# EAGLE library part SCT2024 (library ds_ic_peripherals)
16-bit Serial bit Serial bit Serial-In/Parallel In/Parallel In/Parallel-Out Constant Out Constant Out Constant-Current LED Driver Current LED Driver
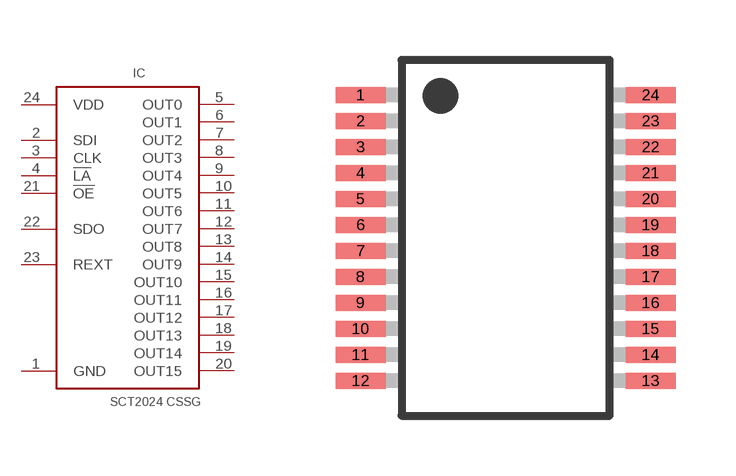
[diagram p35: symbol with the pads of SSOP24; footprint SSOP24]

Designator prefix IC

## SCT2024CSSG  [SSOP24]
1  GND
2  SDI
3  CLK
4  !LA
5  OUT0
6  OUT1
7  OUT2
8  OUT3
9  OUT4
10  OUT5
11  OUT6
12  OUT7
13  OUT8
14  OUT9
15  OUT10
16  OUT11
17  OUT12
18  OUT13
19  OUT14
20  OUT15
21  !OE
22  SDO
23  REXT
24  VDD

## Footprint SSOP24 (pad centres in mm)
smd 1.25 x 0.4: 1 -3.625,3.575; 2 -3.625,2.925; 3 -3.625,2.275; 4 -3.625,1.625; 5 -3.625,0.975; 6 -3.625,0.325; 7 -3.625,-0.325; 8 -3.625,-0.975; 9 -3.625,-1.625; 10 -3.625,-2.275; 11 -3.625,-2.925; 12 -3.625,-3.575; 13 3.625,-3.575; 14 3.625,-2.925; 15 3.625,-2.275; 16 3.625,-1.625; 17 3.625,-0.975; 18 3.625,-0.325; 19 3.625,0.325; 20 3.625,0.975; 21 3.625,1.625; 22 3.625,2.275; 23 3.625,2.925; 24 3.625,3.575